# Altium integrated library HyTechDevices.Library.IntLib: 220 symbols (part 1 of 3)
Pins are listed as number, name and electrical type; pins without a type are passive.

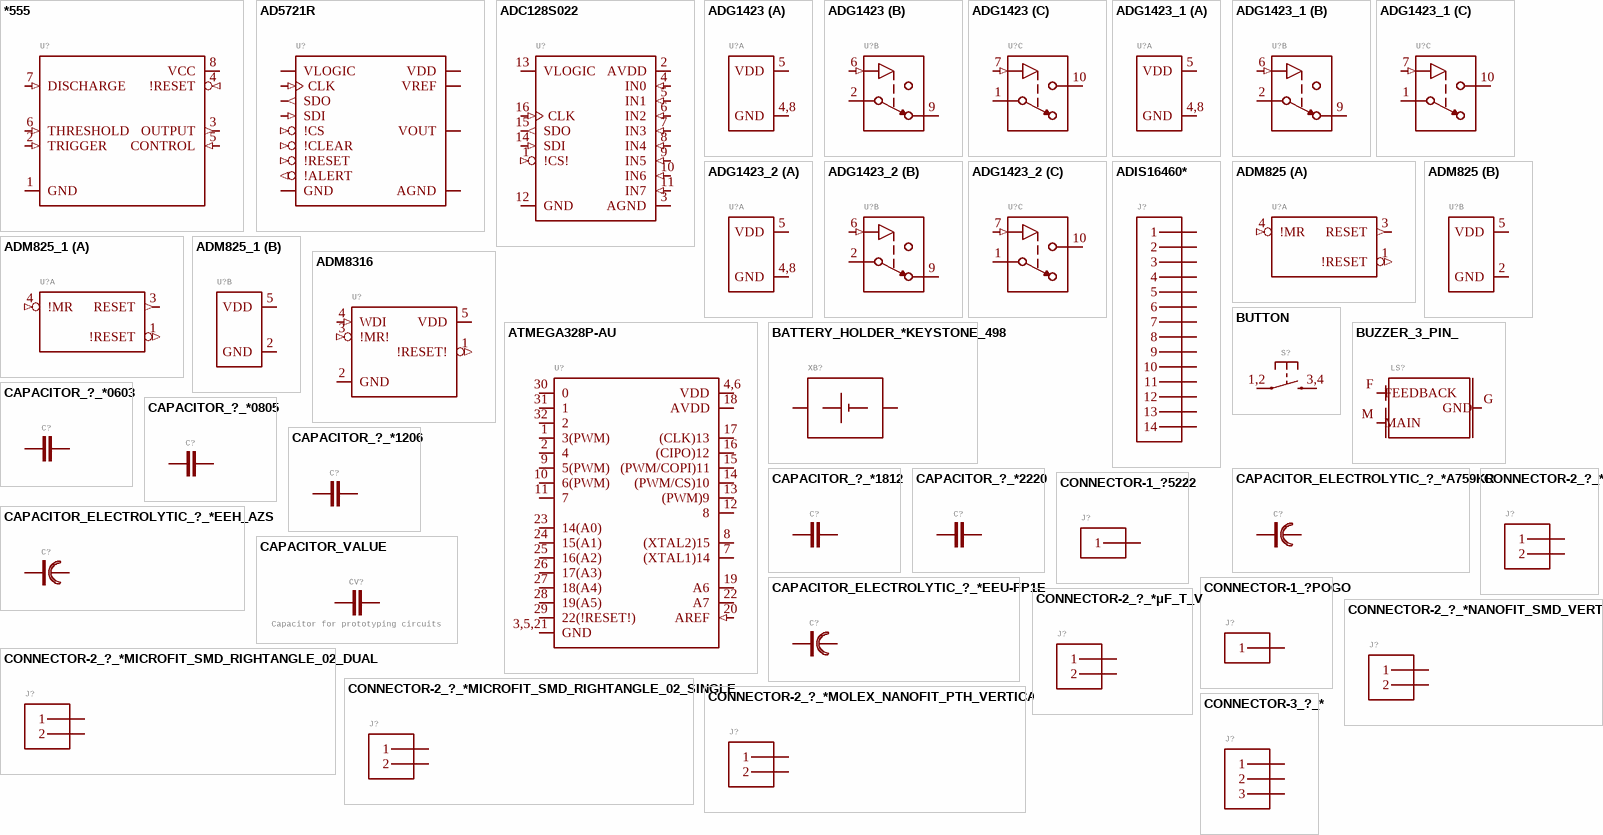
[diagram p0: symbols *555 to CONNECTOR-3_?_*]

## *555
designator U?, comment **555 Precision Timer  NA555, NE555, SA555, SE555  LM555  (value not drawn)
MANUFACTURER: Texas Instruments; MPN: LM555CMX/NOPB; MPN: NA555D; GateName_1: G$1; DeviceSetName: *555; DKPN: LM555CMX/NOPBCT-ND; MOPN: 926-LM555CMX/NOPB; DKPN: NA555D-ND; MOPN: 595-NA555D; SymbolName_1: **555; LibraryName: HyTechDevices; Package: SOIC-08(NARROW,0.15")
footprint SOIC-08(NARROW,0.15")
pins: 1 GND (power), 2 TRIGGER (in), 3 OUTPUT (out), 4 !RESET (in), 5 CONTROL (in), 6 THRESHOLD (in), 7 DISCHARGE (in), 8 VCC (power)

## AD5721R
designator U?, comment 1-Channel 12V 12-Bit DAC  Datasheet  (value not drawn)
GateName_1: G$1; SymbolName_1: AD57X1R; DeviceSetName: AD5721R; CHANNELS: 1; DKPN: AD5721RBRUZ-ND; MOPN: 584-AD5721RBRUZ; LibraryName: HyTechDevices; Package: TSSOP-16; RESOLUTION: 12-Bit
footprint TSSOP-16
pins: ?1 !ALERT (out), ?2 !CLEAR (in), ?3 !RESET (in), ?4 VREF (io), ?5 AGND, ?6 VOUT (power), ?7 VDD (power), ?8 SDO (out), ?9 SDI (in), ?10 !CS (in), ?11 CLK (in), ?12 VLOGIC (power), ?13 GND

## ADC128S022
designator U?, comment ADC128S022 8-channel Analog to Digital Regulator  Datasheet  (value not drawn)
MANUFACTURER: Texas Instruments; MPN: ADC128S022CIMTX/NOPB; GateName_1: G$1; DKPN: 296-38561-1-ND; MOPN: 926-A128S022CIMTXNPB; SymbolName_1: ADC128S022; LibraryName: HyTechDevices; DeviceSetName: ADC128S022; Package: TSSOP-16
footprint TSSOP-16
pins: 1 !CS! (in), 2 AVDD (power), 3 AGND (power), 4 IN0 (in), 5 IN1 (in), 6 IN2 (in), 7 IN3 (in), 8 IN4 (in), 9 IN5 (in), 10 IN6 (in), 11 IN7 (in), 12 GND (power), 13 VLOGIC (power), 14 SDI (in), 15 SDO (out), 16 CLK (in)

## ADG1423
designator U?, comment ADG1423 Form-A/Form-C Analog Switch  < a href="https://www.mouser.com/datasheet/2/609/ADG1421_1422_1423-1502752.pdf">Datasheet  (value not drawn)
MANUFACTURER: Analog Devices Inc.; MPN: ADG1423BRMZ; GateName_1: P; SymbolName_1: PWR_GND; GateName_2: S2; SymbolName_2: SWITCH_SPST_NC; GateName_3: S1; SymbolName_3: SWITCH_SPST_NO; DKPN: ADG1423BRMZ-REEL7CT-ND; MOPN: 584-ADG1423BRMZ; LibraryName: HyTechDevices; DeviceSetName: ADG1423; Package: MSOP-10
footprint MSOP-10
part A pins: 4,8 GND (power), 5 VDD (power)
part B pins: 2 S (io), 6 IN (in), 9 D (io)
part C pins: 1 S (io), 7 IN (in), 10 D (io)

## ADG1423_1
designator U?, comment ADG1423 Form-A/Form-C Analog Switch  < a href="https://www.mouser.com/datasheet/2/609/ADG1421_1422_1423-1502752.pdf">Datasheet  (value not drawn)
MANUFACTURER: Analog Devices Inc.; MPN: ADG1423BRMZ; GateName_1: P; SymbolName_1: PWR_GND; GateName_2: S2; SymbolName_2: SWITCH_SPST_NC; GateName_3: S1; SymbolName_3: SWITCH_SPST_NO; DKPN: ADG1423BRMZ-REEL7CT-ND; MOPN: 584-ADG1423BRMZ; LibraryName: HyTechDevices; DeviceSetName: ADG1423; Package: MSOP-10
footprint MSOP-10
part A pins: 4,8 GND (power), 5 VDD (power)
part B pins: 2 S (io), 6 IN (in), 9 D (io)
part C pins: 1 S (io), 7 IN (in), 10 D (io)

## ADG1423_2
designator U?, comment ADG1423 Form-A/Form-C Analog Switch  < a href="https://www.mouser.com/datasheet/2/609/ADG1421_1422_1423-1502752.pdf">Datasheet  (value not drawn)
MANUFACTURER: Analog Devices Inc.; MPN: ADG1423BRMZ; GateName_1: P; SymbolName_1: PWR_GND; GateName_2: S2; SymbolName_2: SWITCH_SPST_NC; GateName_3: S1; SymbolName_3: SWITCH_SPST_NO; DKPN: ADG1423BRMZ-REEL7CT-ND; MOPN: 584-ADG1423BRMZ; LibraryName: HyTechDevices; DeviceSetName: ADG1423; Package: MSOP-10
footprint MSOP-10
part A pins: 4,8 GND (power), 5 VDD (power)
part B pins: 2 S (io), 6 IN (in), 9 D (io)
part C pins: 1 S (io), 7 IN (in), 10 D (io)

## ADIS16460*
designator J?, comment 14 pin connector specifically for ADIS16460 IMU  Samtec Tiger Claw Datasheet ADIS16460 Datasheet  (value not drawn)
MANUFACTURER: Samtec Inc.; MPN: CLM-107-02; GateName_1: G$1; SymbolName_1: CONNECTOR_14; DeviceSetName: ADIS16460*; DKPN: SAM1129-07-ND; LibraryName: HyTechDevices; Package: ADIS16460
footprint ADIS16460
pins: 1, 2, 3, 4, 5, 6, 7, 8, 9, 10, 11, 12, 13, 14

## ADM825
designator U?
GateName_1: A; SymbolName_1: ADM825; GateName_2: P; SymbolName_2: PWR_GND; LibraryName: HyTechDevices; DeviceSetName: ADM825; Package: SC-70-5
footprint SC-70-5
part A pins: 1 !RESET (out), 3 RESET (out), 4 !MR (in)
part B pins: 2 GND (power), 5 VDD (power)

## ADM825_1
designator U?
GateName_1: A; SymbolName_1: ADM825; GateName_2: P; SymbolName_2: PWR_GND; LibraryName: HyTechDevices; DeviceSetName: ADM825; Package: SC-70-5
footprint SC-70-5
part A pins: 1 !RESET (out), 3 RESET (out), 4 !MR (in)
part B pins: 2 GND (power), 5 VDD (power)

## ADM8316
designator U?, comment ADM8316 Watchdog  Datasheet  (value not drawn)
MANUFACTURER: Analog Devices Inc.; MPN: ADM8316WBX30ARJZR7; GateName_1: G$1; SymbolName_1: ADM8316/8320; DKPN: ADM8316WBX30ARJZR7TR-ND; MOPN: 584-M8316WBX30ARJZR7; RESET_VOLTAGE: 3V; TIMEOUT: 102ms; LibraryName: HyTechDevices; DeviceSetName: ADM8316; Package: SOT-23-5
footprint SOT-23-5
pins: 1 !RESET! (out), 2 GND (power), 3 !MR! (in), 4 WDI (in), 5 VDD (power)

## ATMEGA328P-AU
designator U?, comment ATmega328P  Datasheet  (value not drawn)
MANUFACTURER: Microchip Technology; GateName_1: G$1; SymbolName_1: ATMEGA328P-AU; DKPN: ATMEGA328P-AURCT-ND; MOPN: 556-ATMEGA328P-AU; LibraryName: HyTechDevices; DeviceSetName: ATMEGA328P-AU; Package: TQFP-32; MPN: ATMEGA328P-AU
footprint TQFP-32
pins: 1 3(PWM) (io), 2 4 (io), 3,5,21 GND (power), 4,6 VDD (power), 7 (XTAL1)14 (io), 8 (XTAL2)15 (io), 9 5(PWM) (io), 10 6(PWM) (io), 11 7 (io), 12 8 (io), 13 (PWM)9 (io), 14 (PWM/CS)10 (io), 15 (PWM/COPI)11 (io), 16 (CIPO)12 (io), 17 (CLK)13 (io), 18 AVDD (power), 19 A6 (io), 20 AREF (in), 22 A7 (io), 23 14(A0) (io), 24 15(A1) (io), 25 16(A2) (io), 26 17(A3) (io), 27 18(A4) (io), 28 19(A5) (io), 29 22(!RESET!) (io), 30 0 (io), 31 1 (io), 32 2 (io)

## BATTERY_HOLDER_*KEYSTONE_498
designator XB?, comment Keystone 498 1/3N Cell Holder    PN for the holder; if 1/3N batteries needed, order separately.  Datasheet  (value not drawn)
MANUFACTURER: Keystone Electronics; MPN: 498; GateName_1: G$1; SymbolName_1: BATTERY_HOLDER; DeviceName: KEYSTONE_498; DeviceSetName: BATTERY_HOLDER_*; DKPN: 36-498-ND; MOPN: 534-498; LibraryName: HyTechDevices; Package: 498; BATTERY_TYPE: 1/3N
footprint 498
pins: 1 PLUS (power), 2 MINUS (power)

## BUTTON
designator S?, comment Button Datasheet  (value not drawn)
MANUFACTURER: Omron; MPN: B3S-1000; GateName_1: G$1; DKPN: SW415-ND; MOPN: 653-B3S-1000; SymbolName_1: BUTTON; LibraryName: HyTechDevices; DeviceSetName: BUTTON; Package: B3S-100X
footprint B3S-100X
pins: 1,2 P, 3,4 S

## BUZZER_3_PIN_
designator LS?, comment 3 Pin Buzzer   CPT-3011C-120 Datasheet  (value not drawn)
MANUFACTURER: CUI Devices; GateName_1: G$1; SymbolName_1: BUZZER_3_PIN; DeviceSetName: BUZZER_3_PIN_; DKPN: 102-3762-ND; FREQUENCY: 3kHz; MOPN: 490-CPT-3011C-120; VOLTAGE: 12V; VOLUME: 85dB; LibraryName: HyTechDevices; Package: CPT-3011C-120; MPN: CPT-3011C-120
footprint CPT-3011C-120
pins: F FEEDBACK (io), G GND (power), M MAIN (power)

## CAPACITOR_?_*0603
designator C?, comment Capacitor, Non-Polarized  VJ...1BC Series Datasheet  Samsung Datasheet  Walsin Datasheet  GRM188R61A226ME15D  GRM188R61E106MA73D  885012006013  2220Y6300105KXTWS2  Yageo Class 2, X5R  TDK C Series  AVX Automotive MLCC   KEMET X7R Series  Kyocera AVX  GRM21BR61H  C1812W104KDRACTU  (value not drawn)
MPN: CC0603KRX7R0BB104; MPN: CC0603KRX7R0BB103; MPN: C0603C823K8RACTU; MANUFACTURER: Vishay Vitramon; MPN: VJ0603Y104JXQPW1BC; MPN: VJ0603Y224JXQCW1BC; MPN: CC0603KRX7R6BB103; MPN: VJ0603A150FXQPW1BC; MPN: CC0603KRX7R6BB105; MANUFACTURER: Murata Electronics; MANUFACTURER: Würth Elektronik; MPN: 885012006016; MPN: 885012206012; MANUFACTURER: Samsung Electro-Mechanics; MPN: CL10A475KP8NNNC; MPN: C0603C683K8RACTU; MPN: 0201ZA820JAT2A; MPN: CL10B104KA8NNNC; MANUFACTURER: Walsin Technology Corporation; MPN: 0603B224K250CT; MPN: CC0603KRX7R8BB122; MPN: CL10B105KA8NNNC; MANUFACTURER: TDK Corporation; MPN: C1608X5R1E475K080AC; MPN: 06033C473K4Z2A; MANUFACTURER: Taiyo Yuden; MPN: GMK107B7104KAHT; MPN: C1608X7R1V224K080AB; MPN: C1608X7R1V105K080AE; MPN: CC0603KRX7R9BB104; MPN: C1608C0G1H103J080AA; MPN: UMK107BJ105KA-T; MPN: CL10B471JB8NNNC; GateName_1: G$1; DeviceName: 0603; DeviceSetName: CAPACITOR_?_*; CAPACITANCE: 0.1µF; DKPN: 311-1523-1-ND; MOPN: 603-CC603KRX7R0BB104; TOLERANCE: 10%; VOLTAGE: 100V; CAPACITANCE: 10nF; DKPN: 311-1788-1-ND; MOPN: 603-CC603KRX7R0BB103; CAPACITANCE: 0.082µF; DKPN: 399-17417-2-ND; MOPN: 80-C0603C823K8R; VOLTAGE: 10V; DKPN: 720-1688-1-ND; MOPN: 77-VJ0603Y104JXQPBC; TOLERANCE: 5%; CAPACITANCE: 0.22µF; DKPN: 720-VJ0603Y224JXQCW1BCTR-ND; MOPN: 77-VJ0603Y224JXQCBC; DKPN: 311-4054-1-ND; MOPN: 603-CC603KRX7R6BB103; CAPACITANCE: 15pF; DKPN: 720-VJ0603A150FXQPW1BCCT-ND; MOPN: 77-VJ0603A150FXQPBC; TOLERANCE: 1%; CAPACITANCE: 1µF; DKPN: 311-1796-1-ND; MOPN: 603-CC603KRX7R6BB105; CAPACITANCE: 22µF; DKPN: 490-10476-1-ND; MOPN: 81-GRM188R61A226ME5D; TOLERANCE: 20%; CAPACITANCE: 3.3nF; DKPN: 732-7759-1-ND; MOPN: 710-885012006016; CAPACITANCE: 4.7nF; DKPN: 732-7931-1-ND; MOPN: 710-885012206012; CAPACITANCE: 4.7µF; DKPN: 1276-1044-1-ND; MOPN: 187-CL10A475KP8NNNC; CAPACITANCE: 680pF; DKPN: 732-7757-1-ND; MOPN: 710-885012006013; CAPACITANCE: 68nF; DKPN: 399-C0603C683K8RAC7867CT-ND; MOPN: 80-C0603C683K8R; CAPACITANCE: 82pF; DKPN: 478-1025-1-ND; MOPN: 581-0201ZA820JAT2A; DKPN: 1276-1006-1-ND; MOPN: 187-CL10B104KA8NNNC; VOLTAGE: 25V; DKPN: 1292-1420-1-ND; MOPN: 791-0603B224K250CT; CAPACITANCE: 1.2nF; DKPN: 311-4079-2-ND; MOPN: 603-CC603KRX7R8BB122; CAPACITANCE: 10µF; DKPN: 490-7202-1-ND; MOPN: 81-GRM188R61E106MA3D; DKPN: 1276-1184-1-ND; MOPN: 187-CL10B105KA8NNNC; CAPACITANCE: 4.7uF; DKPN: 445-9050-1-ND; MOPN: 810-C1608X5R1E475K; CAPACITANCE: 47nF; DKPN: 478-6340-1-ND; MOPN: 581-06033C473K42ZA; DKPN: 587-3354-1-ND; MOPN: 963-GMK107B7104KAHT; VOLTAGE: 35V; DKPN: 445-14239-1-ND; MOPN: 810-C1608X7R1V224K0B; DKPN: 445-173625-1-ND; MOPN: 810-C1608X7R1V105KAE; DKPN: 311-1344-1-ND; MOPN: 603-CC603KRX7R9BB104; VOLTAGE: 50V; DKPN: 445-7404-1-ND; MOPN: 810-C1608C0G1H103J; CAPACITANCE: 1uF; DKPN: 587-2400-2-ND; MOPN: 963-UMK107BJ105KA-T; CAPACITANCE: 470pF; DKPN: 1276-2058-1-ND; MOPN: 187-CL10B471JB8NNNC; CAPACITANCE: 47pF; DKPN: 445-12417-1-ND; MOPN: CGA3E2NP01H470J080AA; SymbolName_1: CAPACITOR; LibraryName: HyTechDevices; Package: 0603-CAP; MANUFACTURER: Yageo; MANUFACTURER: KEMET; MPN: GRM188R61A226ME15D; MPN: 885012006013; MANUFACTURER: Kyocera AVX; MANUFACTURER: YAGEO; MPN: GRM188R61E106MA73D; MPN: CGA3E2NP01H470J080AA
footprint 0603-CAP
pins: 1, 2

## CAPACITOR_?_*0805
designator C?, comment Capacitor, Non-Polarized  VJ...1BC Series Datasheet  Samsung Datasheet  Walsin Datasheet  GRM188R61A226ME15D  GRM188R61E106MA73D  885012006013  2220Y6300105KXTWS2  Yageo Class 2, X5R  TDK C Series  AVX Automotive MLCC   KEMET X7R Series  Kyocera AVX  GRM21BR61H  C1812W104KDRACTU  (value not drawn)
MPN: C0805C224K1RACTU; MPN: CC0805MKX5R8BB226; MANUFACTURER: Murata; MPN: GRM21BR61H106KE43L; GateName_1: G$1; DeviceName: 0805; DeviceSetName: CAPACITOR_?_*; CAPACITANCE: 0.22µF; DKPN: 399-8049-1-ND; MOPN: 80-C0805C224K1R; TOLERANCE: 10%; VOLTAGE: 100V; CAPACITANCE: 22µF; DKPN: 311-1903-1-ND; MOPN: 603-CC805MKX5R8BB226; TOLERANCE: 20%; VOLTAGE: 25V; CAPACITANCE: 10uF; DKPN: 490-18663-2-ND; MOPN: 81-GRM21BR61H106KE3L; VOLTAGE: 50V; SymbolName_1: CAPACITOR; LibraryName: HyTechDevices; Package: 0805-CAP; MANUFACTURER: KEMET; MANUFACTURER: Yageo
footprint 0805-CAP
pins: 1, 2

## CAPACITOR_?_*1206
designator C?, comment Capacitor, Non-Polarized  VJ...1BC Series Datasheet  Samsung Datasheet  Walsin Datasheet  GRM188R61A226ME15D  GRM188R61E106MA73D  885012006013  2220Y6300105KXTWS2  Yageo Class 2, X5R  TDK C Series  AVX Automotive MLCC   KEMET X7R Series  Kyocera AVX  GRM21BR61H  C1812W104KDRACTU  (value not drawn)
MANUFACTURER: AVX Corporation; MPN: 12061C225K4T2A; MANUFACTURER: TDK Corporation; MPN: C3216X7R2E104K160AM; MPN: C3216X5R1E336M160AC; MPN: C3216X5R1V226M160AC; GateName_1: G$1; DeviceName: 1206; DeviceSetName: CAPACITOR_?_*; CAPACITANCE: 2.2µF; DKPN: 478-12144-1-ND; MOPN: 581-12061C225K4T2A; TOLERANCE: 10%; VOLTAGE: 100V; CAPACITANCE: 0.1μF; DKPN: 445-6079-2-ND; MOPN: 810-C3216X7R2E104KT5; VOLTAGE: 250V; CAPACITANCE: 33µF; DKPN: 445-8046-1-ND; MOPN: 810-C3216X5R1E336M; TOLERANCE: 20%; VOLTAGE: 25V; CAPACITANCE: 22µF; DKPN: 445-8045-1-ND; MOPN: 810-C3216X5R1V226M; VOLTAGE: 35V; SymbolName_1: CAPACITOR; LibraryName: HyTechDevices; Package: 1206-CAP
footprint 1206-CAP
pins: 1, 2

## CAPACITOR_?_*1812
designator C?, comment Capacitor, Non-Polarized  VJ...1BC Series Datasheet  Samsung Datasheet  Walsin Datasheet  GRM188R61A226ME15D  GRM188R61E106MA73D  885012006013  2220Y6300105KXTWS2  Yageo Class 2, X5R  TDK C Series  AVX Automotive MLCC   KEMET X7R Series  Kyocera AVX  GRM21BR61H  C1812W104KDRACTU  (value not drawn)
MPN: C1812W104KDRAC7800; GateName_1: G$1; DeviceName: 1812; DeviceSetName: CAPACITOR_?_*; CAPACITANCE: 0.1uF; DKPN: 399-C1812W104KDRAC7800CT-ND; MOPN: 80-C1812W104KDR; TOLERANCE: 10%; VOLTAGE: 1000V; SymbolName_1: CAPACITOR; LibraryName: HyTechDevices; Package: 1812-CAP; MANUFACTURER: KEMET
footprint 1812-CAP
pins: 1, 2

## CAPACITOR_?_*2220
designator C?, comment Capacitor, Non-Polarized  VJ...1BC Series Datasheet  Samsung Datasheet  Walsin Datasheet  GRM188R61A226ME15D  GRM188R61E106MA73D  885012006013  2220Y6300105KXTWS2  Yageo Class 2, X5R  TDK C Series  AVX Automotive MLCC   KEMET X7R Series  Kyocera AVX  GRM21BR61H  C1812W104KDRACTU  (value not drawn)
MANUFACTURER: TDK Corporation; MPN: C5750X7R2E105K230KA; MANUFACTURER: TDK Coporation; MPN: C5750CH2J104K280KC; MANUFACTURER: Knowles Syfer; GateName_1: G$1; DeviceName: 2220; DeviceSetName: CAPACITOR_?_*; CAPACITANCE: 1µF; DKPN: 445-2304-2-ND; MOPN: 810-C5750X7R2E105K; TOLERANCE: 10%; VOLTAGE: 250V; CAPACITANCE: 0.1μF; DKPN: 445-11980-2-ND; MOPN: 810-C5750CH2J104K2KC; VOLTAGE: 630V; DKPN: 1608-2220Y6300105KXTWS2CT-ND; MOPN: 843-2220Y63105KXTWS2; SymbolName_1: CAPACITOR; LibraryName: HyTechDevices; Package: 2220-CAP; MPN: 2220Y6300105KXTWS2
footprint 2220-CAP
pins: 1, 2

## CAPACITOR_ELECTROLYTIC_?_*A759KR
designator C?, comment A759 Series Aluminium Hybrid Electrolytic Capacitor  Datasheet  EEH_AZS Hybrid Electrolytic Capacitor  Datasheet  EEU-FP1E Aluminum Electrolytic Capacitor  Datasheet  (value not drawn)
MANUFACTURER: KEMET; MPN: A759KR187M1VAAE024; GateName_1: G$1; SymbolName_1: CAPACITOR_POLARIZED; DeviceName: A759KR; DeviceSetName: CAPACITOR_ELECTROLYTIC_?_*; CAPACITANCE: 180uF; DKPN: 399-A759KR187M1VAAE024-ND; ESR: 24mOhms; MOPN: 80-A759KR187M1VAAE24; TOLERANCE: 20%; VOLTAGE: 35V; LibraryName: HyTechDevices; Package: A759KR
footprint A759KR
pins: MINUS, PLUS

## CAPACITOR_ELECTROLYTIC_?_*EEH_AZS
designator C?, comment A759 Series Aluminium Hybrid Electrolytic Capacitor  Datasheet  EEH_AZS Hybrid Electrolytic Capacitor  Datasheet  EEU-FP1E Aluminum Electrolytic Capacitor  Datasheet  (value not drawn)
MANUFACTURER: Panasonic Electronic Components; MPN: EEH-AZS1V471B; GateName_1: G$1; SymbolName_1: CAPACITOR_POLARIZED; DeviceSetName: CAPACITOR_ELECTROLYTIC_?_*; CAPACITANCE: 470uF; DKPN: 10-EEH-AZS1V471BCT-ND; MOPN: 667-EEH-AZS1V471B; TOLERANCE: 20&; VOLTAGE: 35V; DeviceName: EEH_AZS; LibraryName: HyTechDevices; Package: EEH-AZS
footprint EEH-AZS
pins: MINUS, PLUS

## CAPACITOR_ELECTROLYTIC_?_*EEU-FP1E
designator C?, comment A759 Series Aluminium Hybrid Electrolytic Capacitor  Datasheet  EEH_AZS Hybrid Electrolytic Capacitor  Datasheet  EEU-FP1E Aluminum Electrolytic Capacitor  Datasheet  (value not drawn)
MANUFACTURER: Panasonic Electronic Components; MPN: EEU-FP1E681; GateName_1: G$1; SymbolName_1: CAPACITOR_POLARIZED; DeviceSetName: CAPACITOR_ELECTROLYTIC_?_*; CAPACITANCE: 680uF; DPKN: P123947-ND; ESR: 0.068 Ohms; MOPN: 667-EEU-FP1E681; TOLERANCE: 20%; VOLTAGE: 25V; DeviceName: EEU-FP1E; LibraryName: HyTechDevices; Package: EEU-FP1E*
footprint EEU-FP1E*
pins: MINUS, PLUS

## CAPACITOR_VALUE
designator CV?, comment Capacitor for prototyping circuits
GateName_1: G$1; SymbolName_1: CAPACITOR_VALUE; LibraryName: HyTechDevices; DeviceSetName: CAPACITOR_VALUE; Package: 0603-CAP
footprint 0603-CAP
pins: 1, 2

## CONNECTOR-1_?5222
designator J?, comment 1 Pin Connector  Pogo pin datasheet 5222 Spring datasheet  (value not drawn)
MANUFACTURER: Keystone Electronics; GateName_1: G$1; SymbolName_1: CONNECTOR_01; DeviceName: 5222; DeviceSetName: CONNECTOR-1_?; DKPN: 36-5222-ND; MOPN: 534-5222; LibraryName: HyTechDevices; Package: 5222; MODEL: SPRING; MPN: 5222
footprint 5222
pins: 1

## CONNECTOR-1_?POGO
designator J?, comment 1 Pin Connector  Pogo pin datasheet 5222 Spring datasheet  (value not drawn)
MANUFACTURER: Mill-Max Manufacturing Corp.; MPN: 807-22-001-10-022101; GateName_1: G$1; SymbolName_1: CONNECTOR_01; DeviceSetName: CONNECTOR-1_?; DKPN: 807-22-001-10-022101-ND; MOPN: 575-8072200110022101; DeviceName: POGO; LibraryName: HyTechDevices; Package: 807-22-001-10-02X101
footprint 807-22-001-10-02X101
pins: 1

## CONNECTOR-2_?_*
designator J?, comment 2 Pin Connector  (value not drawn)
MANUFACTURER: JST Sales America Inc.; MPN: B2B-PH-K-S(LF)(SN); GateName_1: G$1; SymbolName_1: CONNECTOR_02; DeviceSetName: CONNECTOR-2_?_*; DKPN: 455-1704-ND; NWRKPN: 37K9940; LibraryName: HyTechDevices; Package: B2B-PH-K
footprint B2B-PH-K
pins: 1 2, 2 1

## CONNECTOR-2_?_*MICROFIT_SMD_RIGHTANGLE_02_DUAL
designator J?, comment 2 Pin Connector  (value not drawn)
MANUFACTURER: Molex; MPN: 0430450211; GateName_1: G$1; SymbolName_1: CONNECTOR_02; DeviceName: MICROFIT_SMD_RIGHTANGLE_02_DUAL; DeviceSetName: CONNECTOR-2_?_*; DKPN: 23-0430450211CT-ND; MOPN: 538-43045-0211; LibraryName: HyTechDevices; Package: MOLEX_MICROFIT_SMD_RIGHTANGLE_02_DUAL
footprint MOLEX_MICROFIT_SMD_RIGHTANGLE_02_DUAL
pins: 1, 2

## CONNECTOR-2_?_*MICROFIT_SMD_RIGHTANGLE_02_SINGLE
designator J?, comment 2 Pin Connector  (value not drawn)
MANUFACTURER: Molex; MPN: 0436500214; GateName_1: G$1; SymbolName_1: CONNECTOR_02; DeviceName: MICROFIT_SMD_RIGHTANGLE_02_SINGLE; DeviceSetName: CONNECTOR-2_?_*; DKPN: WM14310CT-ND; MOPN: 538-43650-0214; LibraryName: HyTechDevices; Package: MOLEX_MICROFIT_SMD_RIGHTANGLE_02_SINGLE
footprint MOLEX_MICROFIT_SMD_RIGHTANGLE_02_SINGLE
pins: 1, 2

## CONNECTOR-2_?_*MOLEX_NANOFIT_PTH_VERTICAL_02
designator J?, comment 2 Pin Connector  (value not drawn)
MANUFACTURER: Molex; MPN: 105309-1302; GateName_1: G$1; SymbolName_1: CONNECTOR_02; DeviceName: MOLEX_NANOFIT_PTH_VERTICAL_02; DeviceSetName: CONNECTOR-2_?_*; DKPN: WM15036-ND; MOPN: 538-105309-1302; LibraryName: HyTechDevices; Package: MOLEX_NANOFIT_PTH_02
footprint MOLEX_NANOFIT_PTH_02
pins: 1, 2

## CONNECTOR-2_?_*NANOFIT_SMD_VERTICAL
designator J?, comment 2 Pin Connector  (value not drawn)
MANUFACTURER: Molex; MPN: 105429-1304; MPN: 105431-2302; GateName_1: G$1; SymbolName_1: CONNECTOR_02; DeviceName: NANOFIT_SMD_VERTICAL; DeviceSetName: CONNECTOR-2_?_*; DKPN: 900-1054291304TR-ND; MOPN: 538-105429-1304; DKPN: 900-1054312302TR-ND; MOPN: 538-105431-2302; LibraryName: HyTechDevices; Package: MOLEX_NANOFIT_SMD_VERTICAL_02
footprint MOLEX_NANOFIT_SMD_VERTICAL_02
pins: 1, 2

## CONNECTOR-2_?_*μF_T_V
designator J?, comment 2 Pin Connector  (value not drawn)
MANUFACTURER: Molex; MPN: 436500217; GateName_1: G$1; SymbolName_1: CONNECTOR_02; DeviceName: μF_T_V; DeviceSetName: CONNECTOR-2_?_*; DKPN: WM12762-ND; MOPN: 538-43650-0217; LibraryName: HyTechDevices; Package: MOLEX_MICROFIT_PTH_VERTICAL_02_DUAL
footprint MOLEX_MICROFIT_PTH_VERTICAL_02_DUAL
pins: 1, 2

## CONNECTOR-3_?_*
designator J?
MANUFACTURER: Souriau; MPN: 8STA20435PN; GateName_1: G$1; SymbolName_1: CONNECTOR_03; DeviceSetName: CONNECTOR-3_?_*; LibraryName: HyTechDevices; Package: SOURIAU_04-35
footprint SOURIAU_04-35
pins: A 1, B 2, C 3

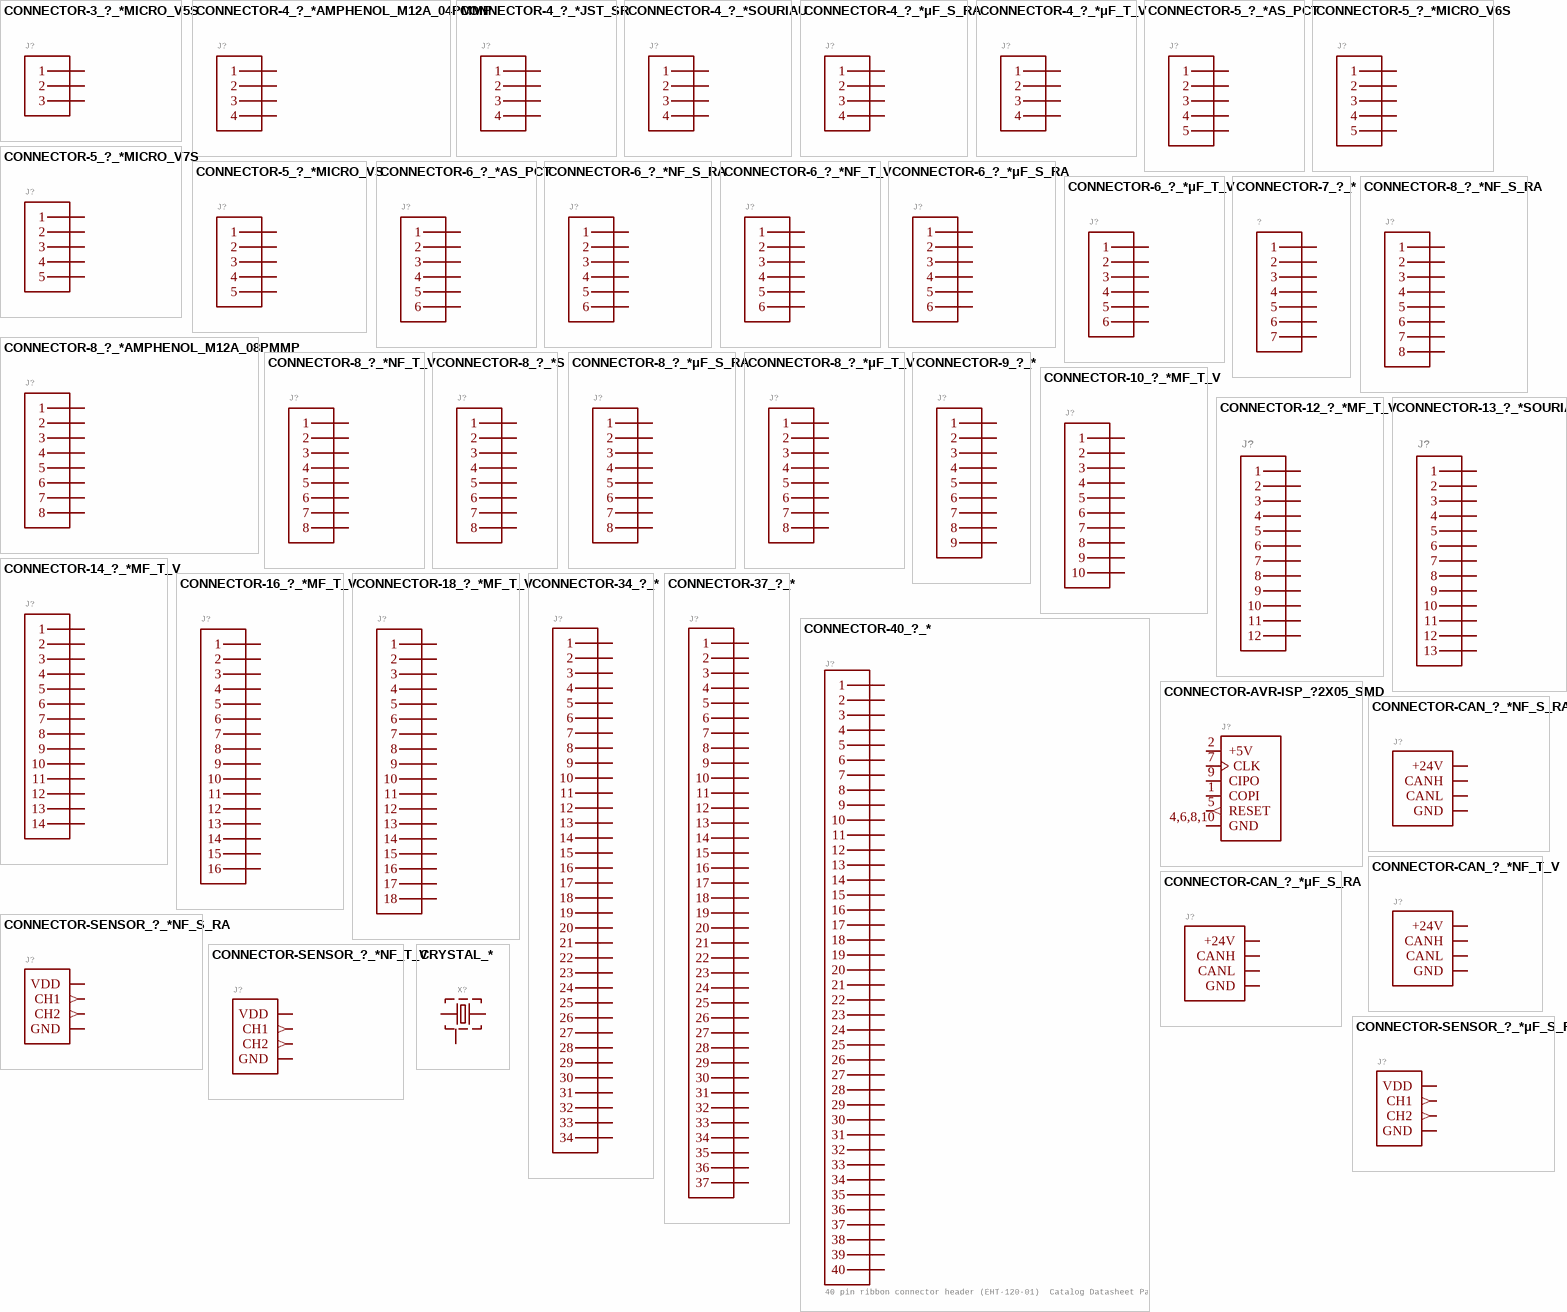
[diagram p1: symbols CONNECTOR-3_?_*MICRO_V5S to CRYSTAL_*]

## CONNECTOR-3_?_*MICRO_V5S
designator J?
GateName_1: G$1; SymbolName_1: CONNECTOR_03; DeviceName: MICRO_V5S; DeviceSetName: CONNECTOR-3_?_*; LibraryName: HyTechDevices; Package: MOLEX_MICROFIT_PTH_VERTICAL_05_SINGLE_SPACED
footprint MOLEX_MICROFIT_PTH_VERTICAL_05_SINGLE_SPACED
pins: 1, 2, 3

## CONNECTOR-4_?_*AMPHENOL_M12A_04PMMP
designator J?, comment 4 Pin Connector  (value not drawn)
MANUFACTURER: Amphenol; MPN: M12A-04PMMP-SF8001; GateName_1: G$1; SymbolName_1: CONNECTOR_04; DeviceName: AMPHENOL_M12A_04PMMP; DeviceSetName: CONNECTOR-4_?_*; DKPN: 1754-1007-ND; LibraryName: HyTechDevices; Package: M12A-04PMMP
footprint M12A-04PMMP
pins: 1, 2, 3, 4

## CONNECTOR-4_?_*JST_SR
designator J?, comment 4 Pin Connector  (value not drawn)
MANUFACTURER: JST; MPN: BM04B-SRSS-TB; GateName_1: G$1; SymbolName_1: CONNECTOR_04; DeviceName: JST_SR; DeviceSetName: CONNECTOR-4_?_*; DPKN: PRT-16766; LibraryName: HyTechDevices; Package: BM04B-SRSS-TB; MOPN: PRT-16766
footprint BM04B-SRSS-TB
pins: 1, 2, 3, 4

## CONNECTOR-4_?_*SOURIAU
designator J?, comment 4 Pin Connector  (value not drawn)
MPN: 8STA21204PN; GateName_1: G$1; SymbolName_1: CONNECTOR_04; DeviceName: SOURIAU; DeviceSetName: CONNECTOR-4_?_*; LibraryName: HyTechDevices; Package: SOURIAU_12-04; MANUFACTURER: Souriau
footprint SOURIAU_12-04
pins: 1, 2, 3, 4

## CONNECTOR-4_?_*μF_S_RA
designator J?, comment 4 Pin Connector  (value not drawn)
MANUFACTURER: Molex; MPN: 0430450411; GateName_1: G$1; SymbolName_1: CONNECTOR_04; DeviceName: μF_S_RA; DeviceSetName: CONNECTOR-4_?_*; DKPN: WM1832CT-ND; MOPN: 538-0430450411; LibraryName: HyTechDevices; Package: MOLEX_MICROFIT_SMD_RIGHTANGLE_04_DUAL
footprint MOLEX_MICROFIT_SMD_RIGHTANGLE_04_DUAL
pins: 1, 2, 3, 4

## CONNECTOR-4_?_*μF_T_V
designator J?, comment 4 Pin Connector  (value not drawn)
MANUFACTURER: Molex; MPN: 430450414; GateName_1: G$1; SymbolName_1: CONNECTOR_04; DeviceName: μF_T_V; DeviceSetName: CONNECTOR-4_?_*; DKPN: 2266-43045-0414-ND; MOPN: 538-43045-0414; LibraryName: HyTechDevices; Package: MOLEX_MICROFIT_PTH_VERTICAL_04_DUAL
footprint MOLEX_MICROFIT_PTH_VERTICAL_04_DUAL
pins: 1, 2, 3, 4

## CONNECTOR-5_?_*AS_PCT
designator J?
MANUFACTURER: Souriau; MPN: 8STA20205PE; GateName_1: G$1; SymbolName_1: CONNECTOR_05; DeviceName: AS_PCT; DeviceSetName: CONNECTOR-5_?_*; LibraryName: HyTechDevices; Package: SOURIAU_02-05
footprint SOURIAU_02-05
pins: 1, 2, 3, 4, 5

## CONNECTOR-5_?_*MICRO_V6S
designator J?
MANUFACTURER: Molex; MPN: 2165713006; GateName_1: G$1; SymbolName_1: CONNECTOR_05; DeviceName: MICRO_V6S; DeviceSetName: CONNECTOR-5_?_*; LibraryName: HyTechDevices; Package: MOLEX_MICROFIT_PTH_VERTICAL_06_SINGLE_SPACED
footprint MOLEX_MICROFIT_PTH_VERTICAL_06_SINGLE_SPACED
pins: 1, 2, 3, 4, 5

## CONNECTOR-5_?_*MICRO_V7S
designator J?
MANUFACTURER: Molex; MPN: 2165713007; GateName_1: G$1; SymbolName_1: CONNECTOR_05; DeviceName: MICRO_V7S; DeviceSetName: CONNECTOR-5_?_*; LibraryName: HyTechDevices; Package: MOLEX_MICROFIT_PTH_VERTICAL_07_SINGLE_SPACED
footprint MOLEX_MICROFIT_PTH_VERTICAL_07_SINGLE_SPACED
pins: 1, 2, 3, 4, 5

## CONNECTOR-5_?_*MICRO_VS
designator J?
GateName_1: G$1; SymbolName_1: CONNECTOR_05; DeviceName: MICRO_VS; DeviceSetName: CONNECTOR-5_?_*; LibraryName: HyTechDevices; Package: MOLEX_MICROFIT_PTH_VERTICAL_05_SINGLE
footprint MOLEX_MICROFIT_PTH_VERTICAL_05_SINGLE
pins: 1, 2, 3, 4, 5

## CONNECTOR-6_?_*AS_PCT
designator J?, comment 6 Pin Connector  (value not drawn)
MANUFACTURER: Souriau; MPN: 8STA20835PN; GateName_1: G$1; SymbolName_1: CONNECTOR_06; DeviceName: AS_PCT; DeviceSetName: CONNECTOR-6_?_*; MOPN: 649-8STA20835PN; LibraryName: HyTechDevices; Package: SOURIAU_08-35
footprint SOURIAU_08-35
pins: 1, 2, 3, 4, 5, 6

## CONNECTOR-6_?_*NF_S_RA
designator J?, comment 6 Pin Connector  (value not drawn)
MANUFACTURER: Molex; MPN: 105405-1306; GateName_1: G$1; SymbolName_1: CONNECTOR_06; DeviceName: NF_S_RA; DeviceSetName: CONNECTOR-6_?_*; DKPN: 1054051306-ND; MOPN: 538-105405-1306; LibraryName: HyTechDevices; Package: MOLEX_NANOFIT_SMD_RIGHTANGLE_06
footprint MOLEX_NANOFIT_SMD_RIGHTANGLE_06
pins: 1, 2, 3, 4, 5, 6

## CONNECTOR-6_?_*NF_T_V
designator J?, comment 6 Pin Connector  (value not drawn)
MANUFACTURER: Molex; MPN: 105310-1306; GateName_1: G$1; SymbolName_1: CONNECTOR_06; DeviceName: NF_T_V; DeviceSetName: CONNECTOR-6_?_*; DKPN: WM15062-ND; MOPN: 538-105310-1306; LibraryName: HyTechDevices; Package: MOLEX_NANOFIT_PTH_06
footprint MOLEX_NANOFIT_PTH_06
pins: 1, 2, 3, 4, 5, 6

## CONNECTOR-6_?_*μF_S_RA
designator J?, comment 6 Pin Connector  (value not drawn)
MANUFACTURER: Molex; MPN: 0430450611; GateName_1: G$1; SymbolName_1: CONNECTOR_06; DeviceName: μF_S_RA; DeviceSetName: CONNECTOR-6_?_*; DKPN: WM1833CT-ND; MOPN: 538-43045-0611; LibraryName: HyTechDevices; Package: MOLEX_MICROFIT_SMD_RIGHTANGLE_06_DUAL
footprint MOLEX_MICROFIT_SMD_RIGHTANGLE_06_DUAL
pins: 1, 2, 3, 4, 5, 6

## CONNECTOR-6_?_*μF_T_V
designator J?, comment 6 Pin Connector  (value not drawn)
MANUFACTURER: Molex; MPN: 430450614; GateName_1: G$1; SymbolName_1: CONNECTOR_06; DeviceName: μF_T_V; DeviceSetName: CONNECTOR-6_?_*; DKPN: WM1797-ND; MOPN: 538-43045-0614; LibraryName: HyTechDevices; Package: MOLEX_MICROFIT_PTH_VERTICAL_06_DUAL
footprint MOLEX_MICROFIT_PTH_VERTICAL_06_DUAL
pins: 1, 2, 3, 4, 5, 6

## CONNECTOR-7_?_*
designator ?
GateName_1: G$1; SymbolName_1: CONNECTOR_07; DeviceSetName: CONNECTOR-7_?_*; LibraryName: HyTechDevices; Package: MOLEX_MICROFIT_PTH_VERTICAL_07_SINGLE
footprint MOLEX_MICROFIT_PTH_VERTICAL_07_SINGLE
pins: 1, 2, 3, 4, 5, 6, 7

## CONNECTOR-8_?_*AMPHENOL_M12A_08PMMP
designator J?, comment 8 Pin Connector  (value not drawn)
MANUFACTURER: Amphenol LTW; MPN: M12A-08PMMP-SF8001; GateName_1: G$1; SymbolName_1: CONNECTOR_08; DeviceName: AMPHENOL_M12A_08PMMP; DeviceSetName: CONNECTOR-8_?_*; DKPN: 1754-1026-ND; MOPN: 523-M12A08PMMPSF8001; LibraryName: HyTechDevices; Package: M12A-08PMMP
footprint M12A-08PMMP
pins: 1, 2, 3, 4, 5, 6, 7, 8

## CONNECTOR-8_?_*NF_S_RA
designator J?, comment 8 Pin Connector  (value not drawn)
MANUFACTURER: Molex; MPN: 105405-1308; GateName_1: G$1; SymbolName_1: CONNECTOR_08; DeviceName: NF_S_RA; DeviceSetName: CONNECTOR-8_?_*; DKPN: 1054051308-ND; MOPN: 538-105405-1308; LibraryName: HyTechDevices; Package: MOLEX_NANOFIT_SMD_RIGHTANGLE_08
footprint MOLEX_NANOFIT_SMD_RIGHTANGLE_08
pins: 1, 2, 3, 4, 5, 6, 7, 8

## CONNECTOR-8_?_*NF_T_V
designator J?, comment 8 Pin Connector  (value not drawn)
MANUFACTURER: Molex; MPN: 105310-1308; MPN: 105310-2308; GateName_1: G$1; SymbolName_1: CONNECTOR_08; DeviceName: NF_T_V; DeviceSetName: CONNECTOR-8_?_*; DKPN: WM15063-ND; MOPN: 538-105310-1308; DKPN: WM15077-ND; MOPN: 538-105310-2308; LibraryName: HyTechDevices; Package: MOLEX_NANOFIT_PTH_08
footprint MOLEX_NANOFIT_PTH_08
pins: 1, 2, 3, 4, 5, 6, 7, 8

## CONNECTOR-8_?_*S
designator J?, comment 8 Pin Connector  (value not drawn)
MANUFACTURER: Sullins Connector Solutions; MPN: PPPC042LFBN-RC; GateName_1: G$1; SymbolName_1: CONNECTOR_08; DeviceName: S; DeviceSetName: CONNECTOR-8_?_*; DKPN: S7107-ND; LibraryName: HyTechDevices; Package: FLEX_STACK_PTH_08_DUAL
footprint FLEX_STACK_PTH_08_DUAL
pins: 1, 2, 3, 4, 5, 6, 7, 8

## CONNECTOR-8_?_*μF_S_RA
designator J?, comment 8 Pin Connector  (value not drawn)
MANUFACTURER: Molex; MPN: 0430450811; GateName_1: G$1; SymbolName_1: CONNECTOR_08; DeviceName: μF_S_RA; DeviceSetName: CONNECTOR-8_?_*; DKPN: WM1834CT-ND; MOPN: 538-43045-0811; LibraryName: HyTechDevices; Package: MOLEX_MICROFIT_SMD_RIGHTANGLE_08_DUAL
footprint MOLEX_MICROFIT_SMD_RIGHTANGLE_08_DUAL
pins: 1, 2, 3, 4, 5, 6, 7, 8

## CONNECTOR-8_?_*μF_T_V
designator J?, comment 8 Pin Connector  (value not drawn)
MANUFACTURER: Molex; MPN: 430450814; GateName_1: G$1; SymbolName_1: CONNECTOR_08; DeviceName: μF_T_V; DeviceSetName: CONNECTOR-8_?_*; DKPN: WM1798-ND; MOPN: 538-43045-0814; LibraryName: HyTechDevices; Package: MOLEX_MICROFIT_PTH_VERTICAL_08_DUAL
footprint MOLEX_MICROFIT_PTH_VERTICAL_08_DUAL
pins: 1, 2, 3, 4, 5, 6, 7, 8

## CONNECTOR-9_?_*
designator J?, comment Souriau 9 pin connector  8STA20609SN  Catalog Datasheet  (value not drawn)
GateName_1: G$1; SymbolName_1: CONNECTOR_09; DeviceSetName: CONNECTOR-9_?_*; LibraryName: HyTechDevices; Package: SOURIAU_06-09; MANUFACTURER: Souriau; MPN: 8STA20609SN
footprint SOURIAU_06-09
pins: 1, 2, 3, 4, 5, 6, 7, 8, 9

## CONNECTOR-10_?_*MF_T_V
designator J?, comment 10 pin connector  Datasheet  (value not drawn)
MANUFACTURER: MOLEX; MPN: 430451014; GateName_1: G$1; SymbolName_1: CONNECTOR_10; DeviceName: MF_T_V; DeviceSetName: CONNECTOR-10_?_*; DKPN: WM1799-ND; MOPN: 538-43045-1014; LibraryName: HyTechDevices; Package: MOLEX_MICROFIT_PTH_VERTICAL_10_DUAL
footprint MOLEX_MICROFIT_PTH_VERTICAL_10_DUAL
pins: 1, 2, 3, 4, 5, 6, 7, 8, 9, 10

## CONNECTOR-12_?_*MF_T_V
designator J?, comment 12 pin connector  Datasheet  (value not drawn)
MANUFACTURER: MOLEX; MPN: 430451214; GateName_1: G$1; SymbolName_1: CONNECTOR_12; DeviceName: MF_T_V; DeviceSetName: CONNECTOR-12_?_*; DKPN: WM1800-ND; MOPN: 538-43045-1214; LibraryName: HyTechDevices; Package: MOLEX_MICROFIT_PTH_VERTICAL_12_DUAL
footprint MOLEX_MICROFIT_PTH_VERTICAL_12_DUAL
pins: 1, 2, 3, 4, 5, 6, 7, 8, 9, 10, 11, 12

## CONNECTOR-13_?_*SOURIAU
designator J?, comment 13 pin connector  Datasheet  (value not drawn)
MPN: 8STA21035PN; GateName_1: G$1; SymbolName_1: CONNECTOR_13; DeviceName: SOURIAU; DeviceSetName: CONNECTOR-13_?_*; MOPN: 649-8STA21035PN; LibraryName: HyTechDevices; Package: SOURIAU_10-35; MANUFACTURER: Souriau
footprint SOURIAU_10-35
pins: 1, 2, 3, 4, 5, 6, 7, 8, 9, 10, 11, 12, 13

## CONNECTOR-14_?_*MF_T_V
designator J?, comment 14 pin connector  Datasheet  (value not drawn)
MANUFACTURER: MOLEX; MPN: 430451414; GateName_1: G$1; SymbolName_1: CONNECTOR_14; DeviceName: MF_T_V; DeviceSetName: CONNECTOR-14_?_*; DKPN: WM4717-ND; MOPN: 538-43045-1414; LibraryName: HyTechDevices; Package: MOLEX_MICROFIT_PTH_VERTICAL_14_DUAL
footprint MOLEX_MICROFIT_PTH_VERTICAL_14_DUAL
pins: 1, 2, 3, 4, 5, 6, 7, 8, 9, 10, 11, 12, 13, 14

## CONNECTOR-16_?_*MF_T_V
designator J?, comment 16 pin connector  Datasheet  (value not drawn)
MANUFACTURER: MOLEX; MPN: 0430451614; GateName_1: G$1; SymbolName_1: CONNECTOR_16; DeviceName: MF_T_V; DeviceSetName: CONNECTOR-16_?_*; DKPN: WM4718-ND; MOPN: 538-43045-1614; LibraryName: HyTechDevices; Package: MOLEX_MICROFIT_PTH_VERTICAL_16_DUAL
footprint MOLEX_MICROFIT_PTH_VERTICAL_16_DUAL
pins: 1, 2, 3, 4, 5, 6, 7, 8, 9, 10, 11, 12, 13, 14, 15, 16

## CONNECTOR-18_?_*MF_T_V
designator J?, comment 18 pin connector  Datasheet  (value not drawn)
MANUFACTURER: MOLEX; MPN: 0430451814; GateName_1: G$1; SymbolName_1: CONNECTOR_18; DeviceName: MF_T_V; DeviceSetName: CONNECTOR-18_?_*; DKPN: WM4719-ND; MOPN: 538-43045-1814; LibraryName: HyTechDevices; Package: MOLEX_MICROFIT_PTH_VERTICAL_18_DUAL
footprint MOLEX_MICROFIT_PTH_VERTICAL_18_DUAL
pins: 1, 2, 3, 4, 5, 6, 7, 8, 9, 10, 11, 12, 13, 14, 15, 16, 17, 18

## CONNECTOR-34_?_*
designator J?, comment 34 pin ribbon connector header (EHT-117-01)  Catalog Datasheet Part  (value not drawn)
MANUFACTURER: Samtec; MPN: EHT-117-01-L-D; GateName_1: G$1; SymbolName_1: CONNECTOR_34; DeviceSetName: CONNECTOR-34_?_*; DKPN: SAM15557-ND; MOPN: 200-EHT11701LD; LibraryName: HyTechDevices; Package: EHT-117-01
footprint EHT-117-01
pins: 1, 2, 3, 4, 5, 6, 7, 8, 9, 10, 11, 12, 13, 14, 15, 16, 17, 18, 19, 20, 21, 22, 23, 24, 25, 26, 27, 28, 29, 30, 31, 32, 33, 34

## CONNECTOR-37_?_*
designator J?, comment 37 pin connector  Datasheet  (value not drawn)
MANUFACTURER: Souriau; MPN: 8STA21435PN; GateName_1: G$1; SymbolName_1: CONNECTOR_37; DeviceSetName: CONNECTOR-37_?_*; MOPN: 649-8STA21435PN; LibraryName: HyTechDevices; Package: SOURIAU_14-35
footprint SOURIAU_14-35
pins: 1, 2, 3, 4, 5, 6, 7, 8, 9, 10, 11, 12, 13, 14, 15, 16, 17, 18, 19, 20, 21, 22, 23, 24, 25, 26, 27, 28, 29, 30, 31, 32, 33, 34, 35, 36, 37

## CONNECTOR-40_?_*
designator J?, comment 40 pin ribbon connector header (EHT-120-01)  Catalog Datasheet Part
MANUFACTURER: Samtec; MPN: EHT-120-01-S-D; GateName_1: G$1; SymbolName_1: CONNECTOR_40; DeviceSetName: CONNECTOR-40_?_*; DKPN: SAM8560-ND; MOPN: 200-EHT12001SD; LibraryName: HyTechDevices; Package: EHT-120-01
footprint EHT-120-01
pins: 1, 2, 3, 4, 5, 6, 7, 8, 9, 10, 11, 12, 13, 14, 15, 16, 17, 18, 19, 20, 21, 22, 23, 24, 25, 26, 27, 28, 29, 30, 31, 32, 33, 34, 35, 36, 37, 38, 39, 40

## CONNECTOR-AVR-ISP_?2X05_SMD
designator J?, comment AVR ISP 6-pin Header   Reference  (value not drawn)
MANUFACTURER: Sullins Connector Solutions; MPN: GBC05DABN-M30; GateName_1: G$1; SymbolName_1: CONNECTOR_AVR_ISP; DeviceName: 2X05_SMD; DeviceSetName: CONNECTOR-AVR-ISP_?; DKPN: S2351E-05-ND; LibraryName: HyTechDevices; Package: 2X05_SMD
footprint 2X05_SMD
pins: 1 COPI (io), 2 +5V (power), 4,6,8,10 GND (power), 5 RESET (out), 7 CLK (io), 9 CIPO (io)

## CONNECTOR-CAN_?_*NF_S_RA
designator J?, comment HyTech CAN Connector  (value not drawn)
MANUFACTURER: Molex; MPN: 105405-1304; GateName_1: G$1; SymbolName_1: CONNECTOR_CAN; DeviceName: NF_S_RA; DeviceSetName: CONNECTOR-CAN_?_*; DKPN: 1054051304-ND; MOPN: 538-105405-1304; LibraryName: HyTechDevices; Package: MOLEX_NANOFIT_SMD_RIGHTANGLE_04
footprint MOLEX_NANOFIT_SMD_RIGHTANGLE_04
pins: 1 +24V (power), 2 GND (power), 3 CANL (io), 4 CANH (io)

## CONNECTOR-CAN_?_*NF_T_V
designator J?, comment HyTech CAN Connector  (value not drawn)
MANUFACTURER: Molex; MPN: 105429-1304; GateName_1: G$1; SymbolName_1: CONNECTOR_CAN; DeviceName: NF_T_V; DeviceSetName: CONNECTOR-CAN_?_*; DKPN: 900-1054291304TR-ND; MOPN: 538-105429-1304; LibraryName: HyTechDevices; Package: MOLEX_NANOFIT_PTH_04
footprint MOLEX_NANOFIT_PTH_04
pins: 1 +24V (power), 2 GND (power), 3 CANL (io), 4 CANH (io)

## CONNECTOR-CAN_?_*μF_S_RA
designator J?, comment HyTech CAN Connector  (value not drawn)
MANUFACTURER: Molex; MPN: 0430450411; GateName_1: G$1; SymbolName_1: CONNECTOR_CAN; DeviceName: μF_S_RA; DeviceSetName: CONNECTOR-CAN_?_*; DKPN: WM1832CT-ND; MOPN: 538-43045-0411; LibraryName: HyTechDevices; Package: MOLEX_MICROFIT_SMD_RIGHTANGLE_04_DUAL
footprint MOLEX_MICROFIT_SMD_RIGHTANGLE_04_DUAL
pins: 1 +24V (power), 2 GND (power), 3 CANL (io), 4 CANH (io)

## CONNECTOR-SENSOR_?_*NF_S_RA
designator J?, comment HyTech Sensor Connector  (value not drawn)
MANUFACTURER: Molex; MPN: 105405-1304; GateName_1: G$1; SymbolName_1: CONNECTOR_SENSOR_2CHANNEL; DeviceName: NF_S_RA; DeviceSetName: CONNECTOR-SENSOR_?_*; DKPN: 1054051304-ND; MOPN: 538-105405-1304; LibraryName: HyTechDevices; Package: MOLEX_NANOFIT_SMD_RIGHTANGLE_04
footprint MOLEX_NANOFIT_SMD_RIGHTANGLE_04
pins: 1 VDD (power), 2 GND (power), 3 CH1 (out), 4 CH2 (out)

## CONNECTOR-SENSOR_?_*NF_T_V
designator J?, comment HyTech Sensor Connector  (value not drawn)
MANUFACTURER: Molex; MPN: 105429-1304; GateName_1: G$1; SymbolName_1: CONNECTOR_SENSOR_2CHANNEL; DeviceName: NF_T_V; DeviceSetName: CONNECTOR-SENSOR_?_*; DKPN: 900-1054291304TR-ND; MOPN: 538-105429-1304; LibraryName: HyTechDevices; Package: MOLEX_NANOFIT_PTH_04
footprint MOLEX_NANOFIT_PTH_04
pins: 1 VDD (power), 2 GND (power), 3 CH1 (out), 4 CH2 (out)

## CONNECTOR-SENSOR_?_*μF_S_RA
designator J?, comment HyTech Sensor Connector  (value not drawn)
MANUFACTURER: Molex; MPN: 0430450411; GateName_1: G$1; SymbolName_1: CONNECTOR_SENSOR_2CHANNEL; DeviceName: μF_S_RA; DeviceSetName: CONNECTOR-SENSOR_?_*; DKPN: WM1832CT-ND; MOPN: 538-43045-0411; LibraryName: HyTechDevices; Package: MOLEX_MICROFIT_SMD_RIGHTANGLE_04_DUAL
footprint MOLEX_MICROFIT_SMD_RIGHTANGLE_04_DUAL
pins: 1 VDD (power), 2 GND (power), 3 CH1 (out), 4 CH2 (out)

## CRYSTAL_*
designator X?, comment Crystal  Datasheet Recommended load capacitor for the ECS-160-10-42-CKM-TR:  VJ0603A150FXQPW1BC  (value not drawn)
MANUFACTURER: TXC CORPORATION; GateName_1: G$1; DeviceSetName: CRYSTAL_*; DKPN: XC2566CT-ND; FREQUENCY: 16 MHz; LOAD_CAPACITANCE: 10pF; MOPN: 520-160-10-42-CKMT; SHUNT_CAPACITANCE: 2 - 5 pF; SymbolName_1: CRYSTAL; LibraryName: HyTechDevices; Package: ECX-42; MPN: ECS-160-10-42-CKM-TR
footprint ECX-42
pins: 1, 2,4 GND (power), 3

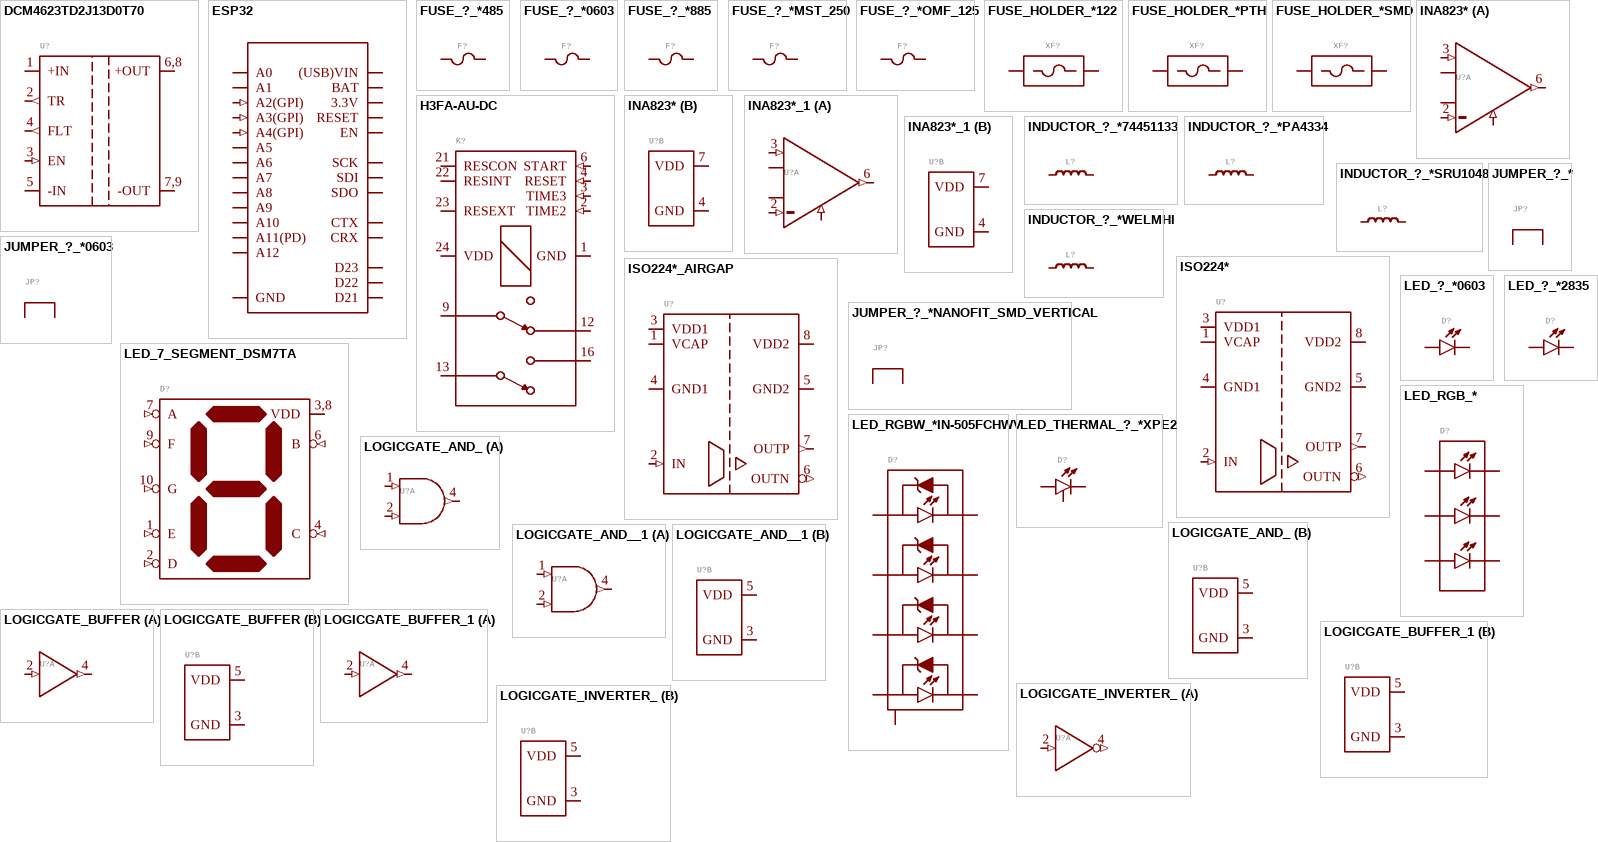
[diagram p2: symbols DCM4623TD2J13D0T70 to LOGICGATE_INVERTER_]

## DCM4623TD2J13D0T70
designator U?, comment 400W 300V to 12V step-down DC-DC converter  Datasheet  (value not drawn)
MANUFACTURER: Vicor; GateName_1: G$1; SymbolName_1: DCM4623-1; DeviceSetName: DCM4623TD2J13D0T70; DKPN: 1102-DCM4623TD2J13D0T70-ND; MOPN: 492-DCM4623D2J13D0T7; LibraryName: HyTechDevices; Package: DCM4623; MPN: DCM4623TD2J13D0T70
footprint DCM4623
pins: 1 +IN (power), 2 TR (out), 3 EN (in), 4 FLT (out), 5 -IN (power), 6,8 +OUT (power), 7,9 -OUT (power)

## ESP32
designator A?, comment ESP32  Datasheet Requires ordering of:  1: 12 pin, 0.1" pitch female headers  1: 16 pin, 0.1" pitch female headers  (value not drawn)
MANUFACTURER: Adafruit Industries LLC; MPN: 3405; GateName_1: G$1; DKPN: 1528-2181-ND; SymbolName_1: ESP32; LibraryName: HyTechDevices; DeviceSetName: ESP32; Package: ESP32
footprint ESP32
pins: 3.3V (power), A0 (io), A1 (io), A2 A2(GPI) (in), A3 A3(GPI) (in), A4 A4(GPI) (in), A5 (io), BAT (power), CIPO SDI (io), COPI SDO (io), D12 A11(PD) (io), D13 A12 (io), D14 A6 (io), D15 A8 (io), D21 (io), D27 A10 (io), D32 A7 (io), D33 A9 (io), EN (power), GND (power), RESET (power), RX CRX (io), SCK (io), SCL D23 (io), SDA D22 (io), TX CTX (io), USB (USB)VIN (power)

## FUSE_?_*485
designator F?, comment Fuse  885 Series  MST 250 Series  OMF 125 Series  0686F0750-01  (value not drawn)
MANUFACTURER: Littelfuse Inc.; MPN: 0485001.DR; GateName_1: G$1; DeviceName: 485; DeviceSetName: FUSE_?_*; CURRENT: 1A; DKPN: F5921TR-ND; I2T: 0.3044; MOPN: 576-0485001.DR; VOLTAGE: 600VDC; SymbolName_1: FUSE; LibraryName: HyTechDevices; Package: 485
footprint 485
pins: 1, 2

## FUSE_?_*0603
designator F?, comment Fuse  885 Series  MST 250 Series  OMF 125 Series  0686F0750-01  (value not drawn)
MANUFACTURER: Bel Fuse; GateName_1: G$1; DeviceName: 0603; DeviceSetName: FUSE_?_*; CURRENT: 0.75A; DKPN: 507-2159-2-ND; I2T: 0.0013; MOPN: 530-0686F0750-01; VOLTAGE: 63V; SymbolName_1: FUSE; LibraryName: HyTechDevices; Package: 0603-FUSE; MPN: 0686F0750-01
footprint 0603-FUSE
pins: 1, 2

## FUSE_?_*885
designator F?, comment Fuse  885 Series  MST 250 Series  OMF 125 Series  0686F0750-01  (value not drawn)
MANUFACTURER: Littelfuse Inc.; MPN: 08851.25DR; MPN: 088501.6DR; MPN: 0885001.DR; GateName_1: G$1; DeviceName: 885; DeviceSetName: FUSE_?_*; CURRENT: 1.25A; DKPN: F10986CT-ND; FUSE_TYPE: SMD; I2T: 1.25; MOPN: 576-08851.25DR; VOLTAGE: 500V; CURRENT: 1.6A; DKPN: F10987CT-ND; I2T: 2.30; MOPN: 576-088501.6DR; CURRENT: 1A; DKPN: F10985CT-ND; I2T: 0.80; MOPN: 576-0885001.DR; SymbolName_1: FUSE; LibraryName: HyTechDevices; Package: 885
footprint 885
pins: 1, 2

## FUSE_?_*MST_250
designator F?, comment Fuse  885 Series  MST 250 Series  OMF 125 Series  0686F0750-01  (value not drawn)
MANUFACTURER: Schurter Inc.; MPN: 0034.6614; GateName_1: G$1; DeviceName: MST_250; DeviceSetName: FUSE_?_*; CURRENT: 800mA; DKPN: 486-1470-ND; FUSE_TYPE: THT; I2T: 8; MOPN: 693-0034.6614; VOLTAGE: 63V; SymbolName_1: FUSE; LibraryName: HyTechDevices; Package: MST_250
footprint MST_250
pins: 1, 2

## FUSE_?_*OMF_125
designator F?, comment Fuse  885 Series  MST 250 Series  OMF 125 Series  0686F0750-01  (value not drawn)
MANUFACTURER: Schurter Inc.; MPN: 3404.0008.11; GateName_1: G$1; DeviceName: OMF_125; DeviceSetName: FUSE_?_*; CURRENT: 630mA; DKPN: 486-2997-ND; FUSE_TYPE: SMD; I2T: 0.02; MOPN: 693-3404.0008.11; VOLTAGE: 125V; SymbolName_1: FUSE; LibraryName: HyTechDevices; Package: OMF_125
footprint OMF_125
pins: 1, 2

## FUSE_HOLDER_*122
designator XF?, comment Fuse Holder  All PNs for the holder; if Miniblade Fuses needed, order separately.  Mini-Blade PTH  Mini-Blade SMD    Littelfuse 122 Fuse Holder and Fuse    Fuse  Fuse Holder  (value not drawn)
MPN: 01220088Z; GateName_1: G$1; SymbolName_1: FUSE_HOLDER; DeviceName: 122; DeviceSetName: FUSE_HOLDER_*; DKPN: F3783-ND; FUSE_TYPE: 1 1/4" Cartridge; MOPN: 576-01220088Z; LibraryName: HyTechDevices; Package: 122; MANUFACTURER: Littelfuse
footprint 122
pins: 1,2 1, 3,4 2

## FUSE_HOLDER_*PTH
designator XF?, comment Fuse Holder  All PNs for the holder; if Miniblade Fuses needed, order separately.  Mini-Blade PTH  Mini-Blade SMD    Littelfuse 122 Fuse Holder and Fuse    Fuse  Fuse Holder  (value not drawn)
MANUFACTURER: Keystone; MPN: 3568; GateName_1: G$1; SymbolName_1: FUSE_HOLDER; DeviceSetName: FUSE_HOLDER_*; DKPN: 36-3568-ND; FUSE_TYPE: MINI 297; MOPN: 534-3568; DeviceName: PTH; LibraryName: HyTechDevices; Package: 3568
footprint 3568
pins: 1,2 1, 3,4 2

## FUSE_HOLDER_*SMD
designator XF?, comment Fuse Holder  All PNs for the holder; if Miniblade Fuses needed, order separately.  Mini-Blade PTH  Mini-Blade SMD    Littelfuse 122 Fuse Holder and Fuse    Fuse  Fuse Holder  (value not drawn)
MANUFACTURER: Keystone Electronics; MPN: 3588; GateName_1: G$1; SymbolName_1: FUSE_HOLDER; DeviceSetName: FUSE_HOLDER_*; DKPN: 36-3588-ND; FUSE_TYPE: MINI 297; MOPN: 534-3588; DeviceName: SMD; LibraryName: HyTechDevices; Package: 3588
footprint 3588
pins: 1,2 1, 3,4 2

## H3FA-AU-DC
designator K?, comment H3FA-*U* Time Delay Relay with Start  Datasheet  (value not drawn)
MANUFACTURER: Omron Automation and Safety; MPN: H3FA-AU-DC5; GateName_1: G$1; SymbolName_1: H3FA-U; DeviceSetName: H3FA-AU-DC; DKPN: Z3011-ND; MOPN: 653-H3FA-AUDC5; LibraryName: HyTechDevices; Package: H3FA-U
footprint H3FA-U
pins: 1 GND (power), 2 TIME2 (in), 3 TIME3 (in), 4 RESET (in), 6 START (in), 9 NC-1 (io), 12 NC-2 (io), 13 NO-1 (io), 16 NO-2 (io), 21 RESCON, 22 RESINT, 23 RESEXT, 24 VDD (power)

## INA823*
designator U?, comment INA823 Precision, Low-Power, Wide-Supply (2.7-V to 36-V) Instrumentation Amplifier  Datasheet  (value not drawn)
MANUFACTURER: Texas Instruments; MPN: INA823DT; GateName_1: A; SymbolName_1: OPAMP-1; GateName_2: P; SymbolName_2: PWR_GND; DeviceSetName: INA823*; DKPN: 296-INA823DTCT-ND; MOPN: 595-INA823DT; LibraryName: HyTechDevices; Package: SOIC-08(NARROW,0.15")
footprint SOIC-08(NARROW,0.15")
part A pins: 1 RG1 (io), 2 VIN- (in), 3 VIN+ (in), 5 VREF (in), 6 VOUT (out), 8 RG2 (io)
part B pins: 4 GND (power), 7 VDD (power)

## INA823*_1
designator U?, comment INA823 Precision, Low-Power, Wide-Supply (2.7-V to 36-V) Instrumentation Amplifier  Datasheet  (value not drawn)
MANUFACTURER: Texas Instruments; MPN: INA823DT; GateName_1: A; SymbolName_1: OPAMP-1; GateName_2: P; SymbolName_2: PWR_GND; DeviceSetName: INA823*; DKPN: 296-INA823DTCT-ND; MOPN: 595-INA823DT; LibraryName: HyTechDevices; Package: SOIC-08(NARROW,0.15")
footprint SOIC-08(NARROW,0.15")
part A pins: 1 RG1 (io), 2 VIN- (in), 3 VIN+ (in), 5 VREF (in), 6 VOUT (out), 8 RG2 (io)
part B pins: 4 GND (power), 7 VDD (power)

## INDUCTOR_?_*74451133
designator L?, comment Inductor  LQM18DH100M70 Datasheet   74451133 Datasheet  SRU1408 Datasheet  PA4334 Datasheet  WE-LMHI Datasheet  (value not drawn)
MANUFACTURER: Pulse Electronics Power; MPN: PA4334.362NLT; MANUFACTURER: Würth Elektronik; MPN: 74437349560; GateName_1: G$1; DeviceSetName: INDUCTOR_?_*; CURRENT_RATED: 1.6A; CURRENT_SATURATION: 1A; DCR: 0.13Ω; DKPN: 553-3508-2-ND; INDUCTANCE: 3.6μH; MOPN: 673-PA4334362NLT; TOLERANCE: 20%; CURRENT_RATED: 0.6A; CURRENT_SATURATION: 0.15A; DCR: 0.19Ω; DKPN: 732-1410-1-ND; INDUCTANCE: 33µH; MOPN: 710-74451133; CURRENT_RATED: 1.4A; DCR: 0.342Ω; DKPN: 732-11454-2-ND; INDUCTANCE: 56μH; MOPN: 710-74437349560; TOLERANCE: 10%; SymbolName_1: INDUCTOR; DeviceName: 74451133; LibraryName: HyTechDevices; Package: 74451133; MPN: 74451133; CURRENT_SATURATION: 1.4A
footprint 74451133
pins: 1, 2

## INDUCTOR_?_*PA4334
designator L?, comment Inductor  LQM18DH100M70 Datasheet   74451133 Datasheet  SRU1408 Datasheet  PA4334 Datasheet  WE-LMHI Datasheet  (value not drawn)
MANUFACTURER: Murata Electronics; MPN: LQM18DH100M70L; MANUFACTURER: Pulse Electonics Company; MPN: PA4334.362NLT; GateName_1: G$1; DeviceSetName: INDUCTOR_?_*; CURRENT_RATED: 300mA; CURRENT_SATURATION: 100mA; DCR: 1.37Ω; DKPN: 490-LQM18DH100M70LTR-ND; INDUCTANCE: 10µH; MOPN: 81-LQM18DH100M70L; TOLERANCE: 20%; CURRENT_RATED: 1.6A; CURRENT_SATURATION: 1A; DCR: 0.13Ω; DKPN: 553-3508-2-ND; INDUCTANCE: 3.6µH; MOPN: 673-PA4334362NLT; SymbolName_1: INDUCTOR; DeviceName: PA4334; LibraryName: HyTechDevices; Package: PA4334
footprint PA4334
pins: 1, 2

## INDUCTOR_?_*SRU1048
designator L?, comment Inductor  LQM18DH100M70 Datasheet   74451133 Datasheet  SRU1408 Datasheet  PA4334 Datasheet  WE-LMHI Datasheet  (value not drawn)
MANUFACTURER: Bourns Inc.; MPN: SRU1048-331Y; GateName_1: G$1; DeviceName: SRU1048; DeviceSetName: INDUCTOR_?_*; CURRENT_RATED: 0.65A; CURRENT_SATURATION: 0.52A; DCR: 0.640Ω; DKPN: SRU1048-331YTR-ND; INDUCTANCE: 330µH; MOPN: 652-SRU1048-331Y; TOLERANCE: 30%; SymbolName_1: INDUCTOR; LibraryName: HyTechDevices; Package: SRU1048
footprint SRU1048
pins: 1, 2

## INDUCTOR_?_*WELMHI
designator L?, comment Inductor  LQM18DH100M70 Datasheet   74451133 Datasheet  SRU1408 Datasheet  PA4334 Datasheet  WE-LMHI Datasheet  (value not drawn)
MANUFACTURER: Wurth Elektronik; MPN: 74437349560; GateName_1: G$1; DeviceName: WELMHI; DeviceSetName: INDUCTOR_?_*; CURRENT_RATED: 1.4A; CURRENT_SATURATION: 2A; DCR: 342mΩ; DKPN: 732-11454-2-ND; INDUCTANCE: 56µH; MOPN: 710-74437349560; TOLERANCE: 20%; SymbolName_1: INDUCTOR; LibraryName: HyTechDevices; Package: WE-LMHI
footprint WE-LMHI
pins: 1, 2

## ISO224*
designator U?, comment ISO224*: Isolated precision amplifier  ISO224A: Low-Grade  ISO224B: High-Grade  ISO224* Datasheet  (value not drawn)
MANUFACTURER: Texas Instruments; MPN: ISO224ADWVR; MPN: ISO224BDWVR; GateName_1: G$1; SymbolName_1: ISO224; DKPN: 296-52315-1-ND; MOPN: 595-ISO224ADWVR; DKPN: 296-52316-1-ND; MOPN: 595-ISO224BDWVR; LibraryName: HyTechDevices; DeviceSetName: ISO224*; Package: SOIC-08(WIDE,0.295")
footprint SOIC-08(WIDE,0.295")
pins: 1 VCAP, 2 IN (in), 3 VDD1 (power), 4 GND1 (power), 5 GND2 (power), 6 OUTN (out), 7 OUTP (out), 8 VDD2 (power)

## ISO224*_AIRGAP
designator U?, comment ISO224*: Isolated precision amplifier  ISO224A: Low-Grade  ISO224B: High-Grade  ISO224* Datasheet  (value not drawn)
MANUFACTURER: Texas Instruments; MPN: ISO224ADWVR; MPN: ISO224BDWVR; GateName_1: G$1; SymbolName_1: ISO224; DeviceName: _AIRGAP; DKPN: 296-52315-1-ND; MOPN: 595-ISO224ADWVR; DKPN: 296-52316-1-ND; MOPN: 595-ISO224BDWVR; LibraryName: HyTechDevices; DeviceSetName: ISO224*; Package: SOIC-08(WIDE,0.295")-AIRGAP
footprint SOIC-08(WIDE,0.295")-AIRGAP
pins: 1 VCAP, 2 IN (in), 3 VDD1 (power), 4 GND1 (power), 5 GND2 (power), 6 OUTN (out), 7 OUTP (out), 8 VDD2 (power)

## JUMPER_?_*
designator JP?, comment 2 Pin Connector  (value not drawn)
MANUFACTURER: Sullins Connector Solutions; MPN: PRPC002SAAN-RC; GateName_1: G$1; SymbolName_1: JUMPER; DeviceSetName: JUMPER_?_*; DKPN: S1011EC-02-ND; LibraryName: HyTechDevices; Package: 1X02
footprint 1X02
pins: 1, 2

## JUMPER_?_*0603
designator JP?, comment 2 Pin Connector  (value not drawn)
MANUFACTURER: YAGEO; MPN: RC0603FR-130RL; GateName_1: G$1; SymbolName_1: JUMPER; DeviceName: 0603; DeviceSetName: JUMPER_?_*; DKPN: 13-RC0603FR-130RLTR-ND; MOPN: 603-RC0603FR-130RL; LibraryName: HyTechDevices; Package: 0603-RES
footprint 0603-RES
pins: 1, 2

## JUMPER_?_*NANOFIT_SMD_VERTICAL
designator JP?, comment 2 Pin Connector  (value not drawn)
MANUFACTURER: Molex; MPN: 105429-1304; MPN: 105431-2302; GateName_1: G$1; SymbolName_1: JUMPER; DeviceName: NANOFIT_SMD_VERTICAL; DeviceSetName: JUMPER_?_*; DKPN: 900-1054291304TR-ND; MOPN: 538-105429-1304; DKPN: 900-1054312302TR-ND; MOPN: 538-105431-2302; LibraryName: HyTechDevices; Package: MOLEX_NANOFIT_SMD_VERTICAL_02
footprint MOLEX_NANOFIT_SMD_VERTICAL_02
pins: 1, 2

## LED_7_SEGMENT_DSM7TA
designator D?, comment Low-Profile 7-Segment Display   DSM7T  Blue  DSM7T  Green <\ul>  (value not drawn)
MANUFACTURER: Visual Communications Company; MPN: DSM7TA56106T; MPN: DSM7TA56105T; GateName_1: G$1; SymbolName_1: DIODE_LED_7_SEGMENT; DeviceName: DSM7TA; DeviceSetName: LED_7_SEGMENT_; DKPN: DSM7TA56106TTR-ND; MOPN: 593-DSM7TA56106T; DKPN: DSM7TA56105TTR-ND; MOPN: 593-DSM7TA56105T; LibraryName: HyTechDevices; Package: DSM7T; COLOR: Blue; COLOR: Green
footprint DSM7T
pins: 1 E (in), 2 D (in), 3,8 VDD (power), 4 C (in), 6 B (in), 7 A (in), 9 F (in), 10 G (in)

## LED_?_*0603
designator D?, comment LED 0603  Blue  Green  Orange  Red  White  Yellow    2835 (Series not on Digikey)  Lumiled LUXEON 2835 Color Line  (value not drawn)
MANUFACTURER: Kingbright; MPN: APT1608VBC/D; MPN: APT1608ZGCK; MPN: APT1608SECK; MPN: APT1608SECK/J3-PRV; MANUFACTURER: Bivar Inc.; MPN: SM0603UWC; MPN: APT1608SYCK/J3-PRV; SymbolName_1: DIODE_LED; DeviceName: 0603; DeviceSetName: LED_?_*; DKPN: 754-1789-1-ND; MOPN: 604-APT1608VBC/D; DKPN: 754-1790-1-ND; MOPN: 604-APT1608ZGCK; DKPN: 754-1120-1-ND; MOPN: 604-APT1608SECK; DKPN: 754-1786-1-ND; MOPN: 604-APT1608SECKJ3PRV; DKPN: SM0603UWC-ND; MOPN: 749-SM0603UWC; DKPN: 754-1788-1-ND; MOPN: 604-APT1608SYCK/J3-PRV; GateName_1: LED; LibraryName: HyTechDevices; Package: 0603-LED; COLOR: Blue; COLOR: Green; COLOR: Orange; COLOR: Red; COLOR: White; COLOR: Yellow
footprint 0603-LED
pins: 1 C, 2 A

## LED_?_*2835
designator D?, comment LED 0603  Blue  Green  Orange  Red  White  Yellow    2835 (Series not on Digikey)  Lumiled LUXEON 2835 Color Line  (value not drawn)
MANUFACTURER: Lumileds; MPN: L128-PCA1003500000; MPN: L128-BLU1003500000; MPN: L128-GRN1003500000; MPN: L128-RED1003500000; MPN: L128-RNG1003500000; SymbolName_1: DIODE_LED; DeviceName: 2835; DeviceSetName: LED_?_*; COLOR: Amber; MOPN: 997-L128PCA10350; MOPN: 997-L128BLU10350; MOPN: 997-L128GRN10350; MOPN: 997-L128RED10350; COLOR: Red-Orange; MOPN: 997-L128RNG10350; GateName_1: LED; LibraryName: HyTechDevices; Package: 2835-LED; COLOR: Blue; COLOR: Green; COLOR: Red
footprint 2835-LED
pins: A, C